# EAGLE library part LM5102MM/NOPB (library ruark2)
IC GATE DRVR HALF-BRIDGE 10VSSOP
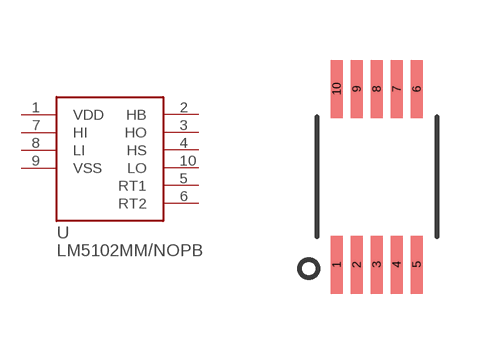
[diagram p179: symbol with the pads of VSSOP10; footprint VSSOP10]

Designator prefix U

## LM5102MM/NOPB (PARTNO: LM5102MM/NOPBCT-ND)  [VSSOP10]
1  VDD
2  HB
3  HO
4  HS
5  RT1
6  RT2
7  HI
8  LI
9  VSS
10  LO

## Footprint VSSOP10 (pad centres in mm)
smd 0.3 x 1.45: 1 -1,-2.2; 2 -0.5,-2.2; 3 0,-2.2; 4 0.5,-2.2; 5 1,-2.2; 6 1,2.2; 7 0.5,2.2; 8 0,2.2; 9 -0.5,2.2; 10 -1,2.2